# Altium schematic symbol library kmilo17pet-NSC_Switcher.SchLib: 2226 symbols (part 55 of 59)
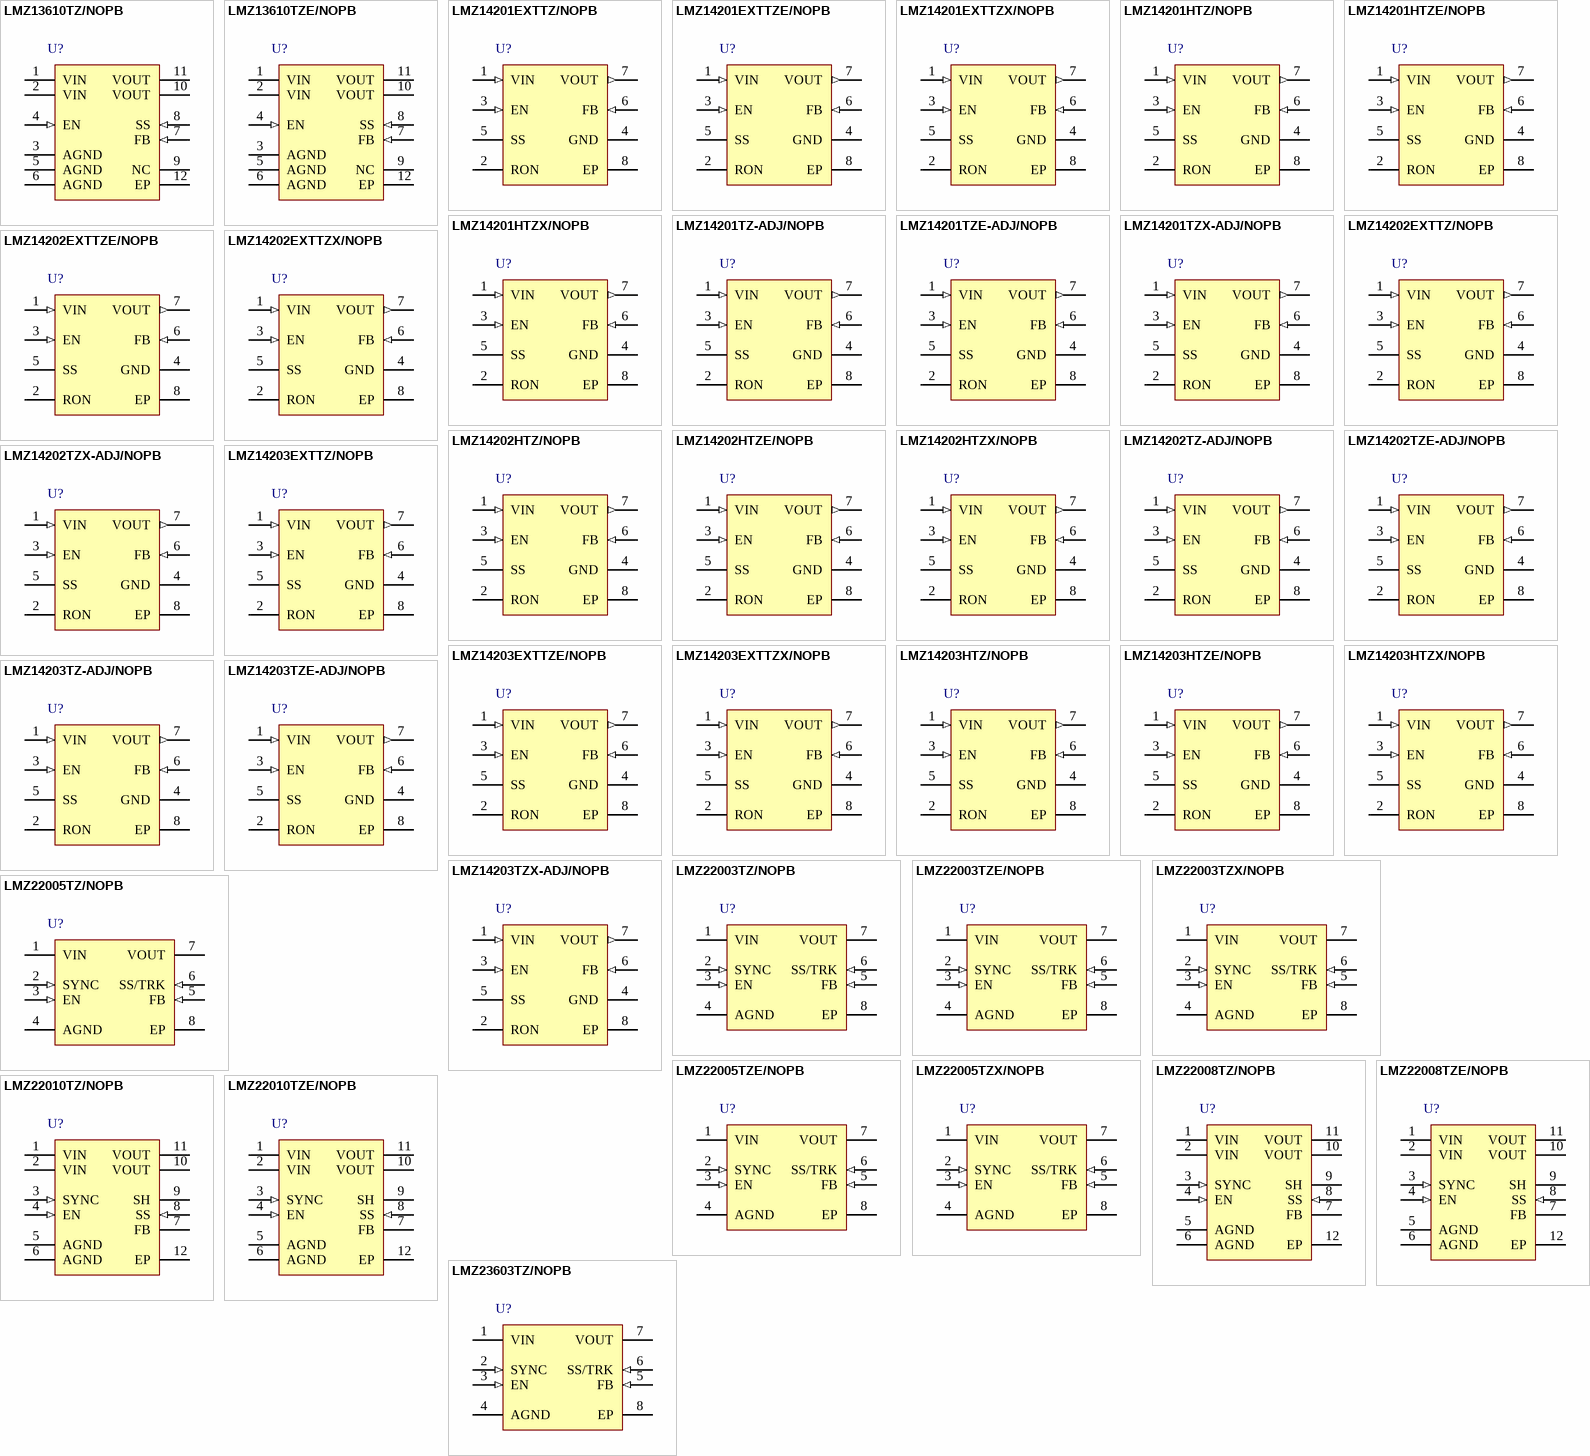
[diagram p123: symbols LMZ13610TZ/NOPB to LMZ23603TZ/NOPB]

## LMZ13610TZE/NOPB
designator U?
10A SIMPLE SWITCHER® Power Module with 36V Maximum Input Voltage, 11 pin TO-PMOD, 250 Reel; PartNumber: LMZ13610TZE/NOPB; Manufacturer: National Semiconductor; PackageTopMarking: NSUZXYTTE#*LMZ13610; PowerWise: N; High-Reliability: Y; DatasheetVersion: May-2011; PackageVersion: revE, Apr-2011; PackageReference: TZA11A; PackageDescription: TO-PMOD, 15 x 15 x 5.9 mm Body, 11 Lead, 1.27 mm Pitch, Surface Mount; RoHS: Y; PinCount: 11; CompType: Switcher; ComponentLink1Description: Manufacturer URL; ComponentLink1URL: http://www.national.com/; ComponentLink2Description: LMZ13610 Datasheet; ComponentLink2URL: http://www.national.com/ds/LM/LMZ13610.pdf; ComponentLink3Description: LMZ13610 Web Page; ComponentLink3URL: http://www.national.com/pf/LM/LMZ13610.html; ComponentLink4Description: TZA11A Package Page; ComponentLink4URL: http://www.national.com/packaging/folders/tza11a.html
footprint TZA11A_V (TO, 12-Leads, Body 15x15mm, Pitch 1.27mm, Lead Span 17.8mm, NSC Recommended)
pins: 1 VIN (power), 2 VIN (power), 3 AGND (power), 4 EN (in), 5 AGND (power), 6 AGND (power), 7 FB (in), 8 SS (in), 9 NC, 10 VOUT (power), 11 VOUT (power), 12 EP (power)

## LMZ14201EXTTZ/NOPB
designator U?
1A SIMPLE SWITCHER® Power Module with 42V Maximum Input Voltage for Military and Rugged Applications, 7 pin TO-PMOD; PartNumber: LMZ14201EXTTZ/NOPB; Manufacturer: National Semiconductor; PackageTopMarking: NSUZXYTTE#*LMZ14201*EXT; PowerWise: Y; DatasheetVersion: Aug-2010; PackageVersion: revD, Apr-2011; PackageReference: TZA07A; PackageDescription: TO-PMOD-7, 10.16 x 9.85 x 4.57 mm Body, 7 Lead, 1.27mm Pitch, Surface Mount; RoHS: Y; PinCount: 7; CompType: Switcher; High-Reliability: Y; ComponentLink1Description: Manufacturer URL; ComponentLink1URL: http://www.national.com/; ComponentLink2Description: LMZ14201EXT Datasheet; ComponentLink2URL: http://www.national.com/ds/LM/LMZ14201EXT.pdf; ComponentLink3Description: LMZ14201EXT Web Page; ComponentLink3URL: http://www.national.com/pf/LM/LMZ14201EXT.html; ComponentLink4Description: TZA07A Package Page; ComponentLink4URL: http://www.national.com/packaging/folders/tza07a.html
footprint TZA07A_V (D2-PAK, 8-Leads, Body 9.9x10.2mm, Pitch 1.27mm, Lead Span 13.8mm, NSC Recommended)
pins: 1 VIN (in), 2 RON, 3 EN (in), 4 GND (power), 5 SS, 6 FB (in), 7 VOUT (out), 8 EP

## LMZ14201EXTTZE/NOPB
designator U?
1A SIMPLE SWITCHER® Power Module with 42V Maximum Input Voltage for Military and Rugged Applications, 7 pin TO-PMOD; PartNumber: LMZ14201EXTTZE/NOPB; Manufacturer: National Semiconductor; PackageTopMarking: NSUZXYTTE#*LMZ14201*EXT; PowerWise: Y; DatasheetVersion: Aug-2010; PackageVersion: revD, Apr-2011; PackageReference: TZA07A; PackageDescription: TO-PMOD-7, 10.16 x 9.85 x 4.57 mm Body, 7 Lead, 1.27mm Pitch, Surface Mount; RoHS: Y; PinCount: 7; CompType: Switcher; High-Reliability: Y; ComponentLink1Description: Manufacturer URL; ComponentLink1URL: http://www.national.com/; ComponentLink2Description: LMZ14201EXT Datasheet; ComponentLink2URL: http://www.national.com/ds/LM/LMZ14201EXT.pdf; ComponentLink3Description: LMZ14201EXT Web Page; ComponentLink3URL: http://www.national.com/pf/LM/LMZ14201EXT.html; ComponentLink4Description: TZA07A Package Page; ComponentLink4URL: http://www.national.com/packaging/folders/tza07a.html
footprint TZA07A_V (D2-PAK, 8-Leads, Body 9.9x10.2mm, Pitch 1.27mm, Lead Span 13.8mm, NSC Recommended)
pins: 1 VIN (in), 2 RON, 3 EN (in), 4 GND (power), 5 SS, 6 FB (in), 7 VOUT (out), 8 EP

## LMZ14201EXTTZX/NOPB
designator U?
1A SIMPLE SWITCHER® Power Module with 42V Maximum Input Voltage for Military and Rugged Applications, 7 pin TO-PMOD; PartNumber: LMZ14201EXTTZX/NOPB; Manufacturer: National Semiconductor; PackageTopMarking: NSUZXYTTE#*LMZ14201*EXT; PowerWise: Y; DatasheetVersion: Aug-2010; PackageVersion: revD, Apr-2011; PackageReference: TZA07A; PackageDescription: TO-PMOD-7, 10.16 x 9.85 x 4.57 mm Body, 7 Lead, 1.27mm Pitch, Surface Mount; RoHS: Y; PinCount: 7; CompType: Switcher; High-Reliability: Y; ComponentLink1Description: Manufacturer URL; ComponentLink1URL: http://www.national.com/; ComponentLink2Description: LMZ14201EXT Datasheet; ComponentLink2URL: http://www.national.com/ds/LM/LMZ14201EXT.pdf; ComponentLink3Description: LMZ14201EXT Web Page; ComponentLink3URL: http://www.national.com/pf/LM/LMZ14201EXT.html; ComponentLink4Description: TZA07A Package Page; ComponentLink4URL: http://www.national.com/packaging/folders/tza07a.html
footprint TZA07A_V (D2-PAK, 8-Leads, Body 9.9x10.2mm, Pitch 1.27mm, Lead Span 13.8mm, NSC Recommended)
pins: 1 VIN (in), 2 RON, 3 EN (in), 4 GND (power), 5 SS, 6 FB (in), 7 VOUT (out), 8 EP

## LMZ14201HTZ/NOPB
designator U?
1A SIMPLE SWITCHER® Power Module with 42V Maximum Input, 7-pin TO-PMOD, Pb-Free, 250 Reel; PartNumber: LMZ14201HTZ/NOPB; Manufacturer: National Semiconductor; PackageTopMarking: NSUZXYTTE#*LMZ14201*HTZ; PowerWise: Y; DatasheetVersion: Jan-2011; PackageVersion: revD, Apr-2011; PackageReference: TZA07A; PackageDescription: TO-PMOD-7, 10.16 x 9.85 x 4.57 mm Body, 7 Lead, 1.27mm Pitch, Surface Mount; RoHS: Y; PinCount: 7; CompType: Switcher; High-Reliability: Y; ComponentLink1Description: Manufacturer URL; ComponentLink1URL: http://www.national.com/; ComponentLink2Description: LMZ14201 Datasheet; ComponentLink2URL: http://www.national.com/ds/LM/LMZ14201H.pdf; ComponentLink3Description: LMZ14201H Web Page; ComponentLink3URL: http://www.national.com/pf/LM/LMZ14201H.html; ComponentLink4Description: TZA07A Package Page; ComponentLink4URL: http://www.national.com/packaging/folders/tza07a.html
footprint TZA07A_V (D2-PAK, 8-Leads, Body 9.9x10.2mm, Pitch 1.27mm, Lead Span 13.8mm, NSC Recommended)
pins: 1 VIN (in), 2 RON, 3 EN (in), 4 GND (power), 5 SS, 6 FB (in), 7 VOUT (out), 8 EP

## LMZ14201HTZE/NOPB
designator U?
1A SIMPLE SWITCHER® Power Module with 42V Maximum Input, 7-pin TO-PMOD, Pb-Free, 45 Rail; PartNumber: LMZ14201HTZE/NOPB; Manufacturer: National Semiconductor; PackageTopMarking: NSUZXYTTE#*LMZ14201*HTZ; PowerWise: Y; DatasheetVersion: Jan-2011; PackageVersion: revD, Apr-2011; PackageReference: TZA07A; PackageDescription: TO-PMOD-7, 10.16 x 9.85 x 4.57 mm Body, 7 Lead, 1.27mm Pitch, Surface Mount; RoHS: Y; PinCount: 7; CompType: Switcher; High-Reliability: Y; ComponentLink1Description: Manufacturer URL; ComponentLink1URL: http://www.national.com/; ComponentLink2Description: LMZ14201 Datasheet; ComponentLink2URL: http://www.national.com/ds/LM/LMZ14201H.pdf; ComponentLink3Description: LMZ14201H Web Page; ComponentLink3URL: http://www.national.com/pf/LM/LMZ14201H.html; ComponentLink4Description: TZA07A Package Page; ComponentLink4URL: http://www.national.com/packaging/folders/tza07a.html
footprint TZA07A_V (D2-PAK, 8-Leads, Body 9.9x10.2mm, Pitch 1.27mm, Lead Span 13.8mm, NSC Recommended)
pins: 1 VIN (in), 2 RON, 3 EN (in), 4 GND (power), 5 SS, 6 FB (in), 7 VOUT (out), 8 EP

## LMZ14201HTZX/NOPB
designator U?
1A SIMPLE SWITCHER® Power Module with 42V Maximum Input, 7-pin TO-PMOD, Pb-Free, 500 Reel; PartNumber: LMZ14201HTZX/NOPB; Manufacturer: National Semiconductor; PackageTopMarking: NSUZXYTTE#*LMZ14201*HTZ; PowerWise: Y; DatasheetVersion: Jan-2011; PackageVersion: revD, Apr-2011; PackageReference: TZA07A; PackageDescription: TO-PMOD-7, 10.16 x 9.85 x 4.57 mm Body, 7 Lead, 1.27mm Pitch, Surface Mount; RoHS: Y; PinCount: 7; CompType: Switcher; High-Reliability: Y; ComponentLink1Description: Manufacturer URL; ComponentLink1URL: http://www.national.com/; ComponentLink2Description: LMZ14201 Datasheet; ComponentLink2URL: http://www.national.com/ds/LM/LMZ14201H.pdf; ComponentLink3Description: LMZ14201H Web Page; ComponentLink3URL: http://www.national.com/pf/LM/LMZ14201H.html; ComponentLink4Description: TZA07A Package Page; ComponentLink4URL: http://www.national.com/packaging/folders/tza07a.html
footprint TZA07A_V (D2-PAK, 8-Leads, Body 9.9x10.2mm, Pitch 1.27mm, Lead Span 13.8mm, NSC Recommended)
pins: 1 VIN (in), 2 RON, 3 EN (in), 4 GND (power), 5 SS, 6 FB (in), 7 VOUT (out), 8 EP

## LMZ14201TZ-ADJ/NOPB
designator U?
1A SIMPLE SWITCHER® Power Module with 42V Maximum Input, 7 pin TO-PMOD; PartNumber: LMZ14201TZ-ADJ/NOPB; Manufacturer: National Semiconductor; PackageTopMarking: NSUZXYTTE#*LMZ14201*TZ-ADJ; PowerWise: Y; DatasheetVersion: Jun-2010; PackageVersion: revD, Apr-2011; PackageReference: TZA07A; PackageDescription: TO-PMOD-7, 10.16 x 9.85 x 4.57 mm Body, 7 Lead, 1.27mm Pitch, Surface Mount; RoHS: Y; PinCount: 7; CompType: Switcher; High-Reliability: Y; ComponentLink1Description: Manufacturer URL; ComponentLink1URL: http://www.national.com/; ComponentLink2Description: LMZ14201 Datasheet; ComponentLink2URL: http://www.national.com/ds/LM/LMZ14201.pdf; ComponentLink3Description: LMZ14201 Web Page; ComponentLink3URL: http://www.national.com/pf/LM/LMZ14201.html; ComponentLink4Description: TZA07A Package Page; ComponentLink4URL: http://www.national.com/packaging/folders/tza07a.html
footprint TZA07A_V (D2-PAK, 8-Leads, Body 9.9x10.2mm, Pitch 1.27mm, Lead Span 13.8mm, NSC Recommended)
pins: 1 VIN (in), 2 RON, 3 EN (in), 4 GND (power), 5 SS, 6 FB (in), 7 VOUT (out), 8 EP

## LMZ14201TZE-ADJ/NOPB
designator U?
1A SIMPLE SWITCHER® Power Module with 42V Maximum Input, 7 pin TO-PMOD; PartNumber: LMZ14201TZE-ADJ/NOPB; Manufacturer: National Semiconductor; PackageTopMarking: NSUZXYTTE#*LMZ14201*TZ-ADJ; PowerWise: N; High-Reliability: Y; DatasheetVersion: Jun-2010; PackageVersion: revD, Apr-2011; PackageReference: TZA07A; PackageDescription: TO-PMOD-7, 10.16 x 9.85 x 4.57 mm Body, 7 Lead, 1.27mm Pitch, Surface Mount; RoHS: Y; PinCount: 7; CompType: Switcher; ComponentLink1Description: Manufacturer URL; ComponentLink1URL: http://www.national.com/; ComponentLink2Description: LMZ14201 Datasheet; ComponentLink2URL: http://www.national.com/ds/LM/LMZ14201.pdf; ComponentLink3Description: LMZ14201 Web Page; ComponentLink3URL: http://www.national.com/pf/LM/LMZ14201.html; ComponentLink4Description: TZA07A Package Page; ComponentLink4URL: http://www.national.com/packaging/folders/tza07a.html
footprint TZA07A_V (D2-PAK, 8-Leads, Body 9.9x10.2mm, Pitch 1.27mm, Lead Span 13.8mm, NSC Recommended)
pins: 1 VIN (in), 2 RON, 3 EN (in), 4 GND (power), 5 SS, 6 FB (in), 7 VOUT (out), 8 EP

## LMZ14201TZX-ADJ/NOPB
designator U?
1A SIMPLE SWITCHER® Power Module with 42V Maximum Input, 7 pin TO-PMOD; PartNumber: LMZ14201TZX-ADJ/NOPB; Manufacturer: National Semiconductor; PackageTopMarking: NSUZXYTTE#*LMZ14201*TZ-ADJ; PowerWise: Y; DatasheetVersion: Jun-2010; PackageVersion: revD, Apr-2011; PackageReference: TZA07A; PackageDescription: TO-PMOD-7, 10.16 x 9.85 x 4.57 mm Body, 7 Lead, 1.27mm Pitch, Surface Mount; RoHS: Y; PinCount: 7; CompType: Switcher; High-Reliability: Y; ComponentLink1Description: Manufacturer URL; ComponentLink1URL: http://www.national.com/; ComponentLink2Description: LMZ14201 Datasheet; ComponentLink2URL: http://www.national.com/ds/LM/LMZ14201.pdf; ComponentLink3Description: LMZ14201 Web Page; ComponentLink3URL: http://www.national.com/pf/LM/LMZ14201.html; ComponentLink4Description: TZA07A Package Page; ComponentLink4URL: http://www.national.com/packaging/folders/tza07a.html
footprint TZA07A_V (D2-PAK, 8-Leads, Body 9.9x10.2mm, Pitch 1.27mm, Lead Span 13.8mm, NSC Recommended)
pins: 1 VIN (in), 2 RON, 3 EN (in), 4 GND (power), 5 SS, 6 FB (in), 7 VOUT (out), 8 EP

## LMZ14202EXTTZ/NOPB
designator U?
2A SIMPLE SWITCHER® Power Module with 42V Maximum Input Voltage for Military and Rugged Applications, 7 pin TO-PMOD; PartNumber: LMZ14202EXTTZ/NOPB; Manufacturer: National Semiconductor; PackageTopMarking: NSUZXYTTE#*LMZ14202*EXT; PowerWise: Y; DatasheetVersion: Aug-2010; PackageVersion: revD, Apr-2011; PackageReference: TZA07A; PackageDescription: TO-PMOD-7, 10.16 x 9.85 x 4.57 mm Body, 7 Lead, 1.27mm Pitch, Surface Mount; RoHS: Y; PinCount: 7; CompType: Switcher; High-Reliability: Y; ComponentLink1Description: Manufacturer URL; ComponentLink1URL: http://www.national.com/; ComponentLink2Description: LMZ14202EXT Datasheet; ComponentLink2URL: http://www.national.com/ds/LM/LMZ14202EXT.pdf; ComponentLink3Description: LMZ14202EXT Web Page; ComponentLink3URL: http://www.national.com/pf/LM/LMZ14202EXT.html; ComponentLink4Description: TZA07A Package Page; ComponentLink4URL: http://www.national.com/packaging/folders/tza07a.html
footprint TZA07A_V (D2-PAK, 8-Leads, Body 9.9x10.2mm, Pitch 1.27mm, Lead Span 13.8mm, NSC Recommended)
pins: 1 VIN (in), 2 RON, 3 EN (in), 4 GND (power), 5 SS, 6 FB (in), 7 VOUT (out), 8 EP

## LMZ14202EXTTZE/NOPB
designator U?
2A SIMPLE SWITCHER® Power Module with 42V Maximum Input Voltage for Military and Rugged Applications, 7 pin TO-PMOD; PartNumber: LMZ14202EXTTZE/NOPB; Manufacturer: National Semiconductor; PackageTopMarking: NSUZXYTTE#*LMZ14202*EXT; PowerWise: Y; DatasheetVersion: Aug-2010; PackageVersion: revD, Apr-2011; PackageReference: TZA07A; PackageDescription: TO-PMOD-7, 10.16 x 9.85 x 4.57 mm Body, 7 Lead, 1.27mm Pitch, Surface Mount; RoHS: Y; PinCount: 7; CompType: Switcher; High-Reliability: Y; ComponentLink1Description: Manufacturer URL; ComponentLink1URL: http://www.national.com/; ComponentLink2Description: LMZ14202EXT Datasheet; ComponentLink2URL: http://www.national.com/ds/LM/LMZ14202EXT.pdf; ComponentLink3Description: LMZ14202EXT Web Page; ComponentLink3URL: http://www.national.com/pf/LM/LMZ14202EXT.html; ComponentLink4Description: TZA07A Package Page; ComponentLink4URL: http://www.national.com/packaging/folders/tza07a.html
footprint TZA07A_V (D2-PAK, 8-Leads, Body 9.9x10.2mm, Pitch 1.27mm, Lead Span 13.8mm, NSC Recommended)
pins: 1 VIN (in), 2 RON, 3 EN (in), 4 GND (power), 5 SS, 6 FB (in), 7 VOUT (out), 8 EP

## LMZ14202EXTTZX/NOPB
designator U?
2A SIMPLE SWITCHER® Power Module with 42V Maximum Input Voltage for Military and Rugged Applications, 7 pin TO-PMOD; PartNumber: LMZ14202EXTTZX/NOPB; Manufacturer: National Semiconductor; PackageTopMarking: NSUZXYTTE#*LMZ14202*EXT; PowerWise: Y; DatasheetVersion: Aug-2010; PackageVersion: revD, Apr-2011; PackageReference: TZA07A; PackageDescription: TO-PMOD-7, 10.16 x 9.85 x 4.57 mm Body, 7 Lead, 1.27mm Pitch, Surface Mount; RoHS: Y; PinCount: 7; CompType: Switcher; High-Reliability: Y; ComponentLink1Description: Manufacturer URL; ComponentLink1URL: http://www.national.com/; ComponentLink2Description: LMZ14202EXT Datasheet; ComponentLink2URL: http://www.national.com/ds/LM/LMZ14202EXT.pdf; ComponentLink3Description: LMZ14202EXT Web Page; ComponentLink3URL: http://www.national.com/pf/LM/LMZ14202EXT.html; ComponentLink4Description: TZA07A Package Page; ComponentLink4URL: http://www.national.com/packaging/folders/tza07a.html
footprint TZA07A_V (D2-PAK, 8-Leads, Body 9.9x10.2mm, Pitch 1.27mm, Lead Span 13.8mm, NSC Recommended)
pins: 1 VIN (in), 2 RON, 3 EN (in), 4 GND (power), 5 SS, 6 FB (in), 7 VOUT (out), 8 EP

## LMZ14202HTZ/NOPB
designator U?
2A SIMPLE SWITCHER® Power Module with 42V Maximum Input, 7-pin TO-PMOD, Pb-Free, 250 Reel; PartNumber: LMZ14202HTZ/NOPB; Manufacturer: National Semiconductor; PackageTopMarking: NSUZXYTTE#*LMZ14202*HTZ; PowerWise: Y; DatasheetVersion: Jan-2011; PackageVersion: revD, Apr-2011; PackageReference: TZA07A; PackageDescription: TO-PMOD-7, 10.16 x 9.85 x 4.57 mm Body, 7 Lead, 1.27mm Pitch, Surface Mount; RoHS: Y; PinCount: 7; CompType: Switcher; High-Reliability: Y; ComponentLink1Description: Manufacturer URL; ComponentLink1URL: http://www.national.com/; ComponentLink2Description: LMZ14202 Datasheet; ComponentLink2URL: http://www.national.com/ds/LM/LMZ14202H.pdf; ComponentLink3Description: LMZ14202H Web Page; ComponentLink3URL: http://www.national.com/pf/LM/LMZ14202H.html; ComponentLink4Description: TZA07A Package Page; ComponentLink4URL: http://www.national.com/packaging/folders/tza07a.html
footprint TZA07A_V (D2-PAK, 8-Leads, Body 9.9x10.2mm, Pitch 1.27mm, Lead Span 13.8mm, NSC Recommended)
pins: 1 VIN (in), 2 RON, 3 EN (in), 4 GND (power), 5 SS, 6 FB (in), 7 VOUT (out), 8 EP

## LMZ14202HTZE/NOPB
designator U?
2A SIMPLE SWITCHER® Power Module with 42V Maximum Input, 7-pin TO-PMOD, Pb-Free, 45 Rail; PartNumber: LMZ14202HTZE/NOPB; Manufacturer: National Semiconductor; PackageTopMarking: NSUZXYTTE#*LMZ14202*HTZ; PowerWise: Y; DatasheetVersion: Jan-2011; PackageVersion: revD, Apr-2011; PackageReference: TZA07A; PackageDescription: TO-PMOD-7, 10.16 x 9.85 x 4.57 mm Body, 7 Lead, 1.27mm Pitch, Surface Mount; RoHS: Y; PinCount: 7; CompType: Switcher; High-Reliability: Y; ComponentLink1Description: Manufacturer URL; ComponentLink1URL: http://www.national.com/; ComponentLink2Description: LMZ14202 Datasheet; ComponentLink2URL: http://www.national.com/ds/LM/LMZ14202H.pdf; ComponentLink3Description: LMZ14202H Web Page; ComponentLink3URL: http://www.national.com/pf/LM/LMZ14202H.html; ComponentLink4Description: TZA07A Package Page; ComponentLink4URL: http://www.national.com/packaging/folders/tza07a.html
footprint TZA07A_V (D2-PAK, 8-Leads, Body 9.9x10.2mm, Pitch 1.27mm, Lead Span 13.8mm, NSC Recommended)
pins: 1 VIN (in), 2 RON, 3 EN (in), 4 GND (power), 5 SS, 6 FB (in), 7 VOUT (out), 8 EP

## LMZ14202HTZX/NOPB
designator U?
2A SIMPLE SWITCHER® Power Module with 42V Maximum Input, 7-pin TO-PMOD, Pb-Free, 500 Reel; PartNumber: LMZ14202HTZX/NOPB; Manufacturer: National Semiconductor; PackageTopMarking: NSUZXYTTE#*LMZ14202*HTZ; PowerWise: Y; DatasheetVersion: Jan-2011; PackageVersion: revD, Apr-2011; PackageReference: TZA07A; PackageDescription: TO-PMOD-7, 10.16 x 9.85 x 4.57 mm Body, 7 Lead, 1.27mm Pitch, Surface Mount; RoHS: Y; PinCount: 7; CompType: Switcher; High-Reliability: Y; ComponentLink1Description: Manufacturer URL; ComponentLink1URL: http://www.national.com/; ComponentLink2Description: LMZ14202 Datasheet; ComponentLink2URL: http://www.national.com/ds/LM/LMZ14202H.pdf; ComponentLink3Description: LMZ14202H Web Page; ComponentLink3URL: http://www.national.com/pf/LM/LMZ14202H.html; ComponentLink4Description: TZA07A Package Page; ComponentLink4URL: http://www.national.com/packaging/folders/tza07a.html
footprint TZA07A_V (D2-PAK, 8-Leads, Body 9.9x10.2mm, Pitch 1.27mm, Lead Span 13.8mm, NSC Recommended)
pins: 1 VIN (in), 2 RON, 3 EN (in), 4 GND (power), 5 SS, 6 FB (in), 7 VOUT (out), 8 EP

## LMZ14202TZ-ADJ/NOPB
designator U?
2A SIMPLE SWITCHER® Power Module with 42V Maximum Input, 7 pin TO-PMOD; PartNumber: LMZ14202TZ-ADJ/NOPB; Manufacturer: National Semiconductor; PackageTopMarking: NSUZXYTTE#*LMZ14202*TZ-ADJ; PowerWise: Y; DatasheetVersion: Jun-2010; PackageVersion: revD, Apr-2011; PackageReference: TZA07A; PackageDescription: TO-PMOD-7, 10.16 x 9.85 x 4.57 mm Body, 7 Lead, 1.27mm Pitch, Surface Mount; RoHS: Y; PinCount: 7; CompType: Switcher; High-Reliability: Y; ComponentLink1Description: Manufacturer URL; ComponentLink1URL: http://www.national.com/; ComponentLink2Description: LMZ14202 Datasheet; ComponentLink2URL: http://www.national.com/ds/LM/LMZ14202.pdf; ComponentLink3Description: LMZ14202 Web Page; ComponentLink3URL: http://www.national.com/pf/LM/LMZ14202.html; ComponentLink4Description: TZA07A Package Page; ComponentLink4URL: http://www.national.com/packaging/folders/tza07a.html
footprint TZA07A_V (D2-PAK, 8-Leads, Body 9.9x10.2mm, Pitch 1.27mm, Lead Span 13.8mm, NSC Recommended)
pins: 1 VIN (in), 2 RON, 3 EN (in), 4 GND (power), 5 SS, 6 FB (in), 7 VOUT (out), 8 EP

## LMZ14202TZE-ADJ/NOPB
designator U?
2A SIMPLE SWITCHER® Power Module with 42V Maximum Input, 7 pin TO-PMOD; PartNumber: LMZ14202TZE-ADJ/NOPB; Manufacturer: National Semiconductor; PackageTopMarking: NSUZXYTTE#*LMZ14202*TZ-ADJ; PowerWise: N; High-Reliability: Y; DatasheetVersion: Jun-2010; PackageVersion: revD, Apr-2011; PackageReference: TZA07A; PackageDescription: TO-PMOD-7, 10.16 x 9.85 x 4.57 mm Body, 7 Lead, 1.27mm Pitch, Surface Mount; RoHS: Y; PinCount: 7; CompType: Switcher; ComponentLink1Description: Manufacturer URL; ComponentLink1URL: http://www.national.com/; ComponentLink2Description: LMZ14202 Datasheet; ComponentLink2URL: http://www.national.com/ds/LM/LMZ14202.pdf; ComponentLink3Description: LMZ14202 Web Page; ComponentLink3URL: http://www.national.com/pf/LM/LMZ14202.html; ComponentLink4Description: TZA07A Package Page; ComponentLink4URL: http://www.national.com/packaging/folders/tza07a.html
footprint TZA07A_V (D2-PAK, 8-Leads, Body 9.9x10.2mm, Pitch 1.27mm, Lead Span 13.8mm, NSC Recommended)
pins: 1 VIN (in), 2 RON, 3 EN (in), 4 GND (power), 5 SS, 6 FB (in), 7 VOUT (out), 8 EP

## LMZ14202TZX-ADJ/NOPB
designator U?
2A SIMPLE SWITCHER® Power Module with 42V Maximum Input, 7 pin TO-PMOD; PartNumber: LMZ14202TZX-ADJ/NOPB; Manufacturer: National Semiconductor; PackageTopMarking: NSUZXYTTE#*LMZ14202*TZ-ADJ; PowerWise: Y; DatasheetVersion: Jun-2010; PackageVersion: revD, Apr-2011; PackageReference: TZA07A; PackageDescription: TO-PMOD-7, 10.16 x 9.85 x 4.57 mm Body, 7 Lead, 1.27mm Pitch, Surface Mount; RoHS: Y; PinCount: 7; CompType: Switcher; High-Reliability: Y; ComponentLink1Description: Manufacturer URL; ComponentLink1URL: http://www.national.com/; ComponentLink2Description: LMZ14202 Datasheet; ComponentLink2URL: http://www.national.com/ds/LM/LMZ14202.pdf; ComponentLink3Description: LMZ14202 Web Page; ComponentLink3URL: http://www.national.com/pf/LM/LMZ14202.html; ComponentLink4Description: TZA07A Package Page; ComponentLink4URL: http://www.national.com/packaging/folders/tza07a.html
footprint TZA07A_V (D2-PAK, 8-Leads, Body 9.9x10.2mm, Pitch 1.27mm, Lead Span 13.8mm, NSC Recommended)
pins: 1 VIN (in), 2 RON, 3 EN (in), 4 GND (power), 5 SS, 6 FB (in), 7 VOUT (out), 8 EP

## LMZ14203EXTTZ/NOPB
designator U?
3A SIMPLE SWITCHER® Power Module with 42V Maximum Input Voltage for Military and Rugged Applications, 7 pin TO-PMOD; PartNumber: LMZ14203EXTTZ/NOPB; Manufacturer: National Semiconductor; PackageTopMarking: NSUZXYTTE#*LMZ14203*EXT; PowerWise: Y; DatasheetVersion: Aug-2010; PackageVersion: revD, Apr-2011; PackageReference: TZA07A; PackageDescription: TO-PMOD-7, 10.16 x 9.85 x 4.57 mm Body, 7 Lead, 1.27mm Pitch, Surface Mount; RoHS: Y; PinCount: 7; CompType: Switcher; High-Reliability: Y; ComponentLink1Description: Manufacturer URL; ComponentLink1URL: http://www.national.com/; ComponentLink2Description: LMZ14203EXT Datasheet; ComponentLink2URL: http://www.national.com/ds/LM/LMZ14203EXT.pdf; ComponentLink3Description: LMZ14203EXT Web Page; ComponentLink3URL: http://www.national.com/pf/LM/LMZ14203EXT.html; ComponentLink4Description: TZA07A Package Page; ComponentLink4URL: http://www.national.com/packaging/folders/tza07a.html
footprint TZA07A_V (D2-PAK, 8-Leads, Body 9.9x10.2mm, Pitch 1.27mm, Lead Span 13.8mm, NSC Recommended)
pins: 1 VIN (in), 2 RON, 3 EN (in), 4 GND (power), 5 SS, 6 FB (in), 7 VOUT (out), 8 EP

## LMZ14203EXTTZE/NOPB
designator U?
3A SIMPLE SWITCHER® Power Module with 42V Maximum Input Voltage for Military and Rugged Applications, 7 pin TO-PMOD; PartNumber: LMZ14203EXTTZE/NOPB; Manufacturer: National Semiconductor; PackageTopMarking: NSUZXYTTE#*LMZ14203*EXT; PowerWise: Y; DatasheetVersion: Aug-2010; PackageVersion: revD, Apr-2011; PackageReference: TZA07A; PackageDescription: TO-PMOD-7, 10.16 x 9.85 x 4.57 mm Body, 7 Lead, 1.27mm Pitch, Surface Mount; RoHS: Y; PinCount: 7; CompType: Switcher; High-Reliability: Y; ComponentLink1Description: Manufacturer URL; ComponentLink1URL: http://www.national.com/; ComponentLink2Description: LMZ14203EXT Datasheet; ComponentLink2URL: http://www.national.com/ds/LM/LMZ14203EXT.pdf; ComponentLink3Description: LMZ14203EXT Web Page; ComponentLink3URL: http://www.national.com/pf/LM/LMZ14203EXT.html; ComponentLink4Description: TZA07A Package Page; ComponentLink4URL: http://www.national.com/packaging/folders/tza07a.html
footprint TZA07A_V (D2-PAK, 8-Leads, Body 9.9x10.2mm, Pitch 1.27mm, Lead Span 13.8mm, NSC Recommended)
pins: 1 VIN (in), 2 RON, 3 EN (in), 4 GND (power), 5 SS, 6 FB (in), 7 VOUT (out), 8 EP

## LMZ14203EXTTZX/NOPB
designator U?
3A SIMPLE SWITCHER® Power Module with 42V Maximum Input Voltage for Military and Rugged Applications, 7 pin TO-PMOD; PartNumber: LMZ14203EXTTZX/NOPB; Manufacturer: National Semiconductor; PackageTopMarking: NSUZXYTTE#*LMZ14203*EXT; PowerWise: Y; DatasheetVersion: Aug-2010; PackageVersion: revD, Apr-2011; PackageReference: TZA07A; PackageDescription: TO-PMOD-7, 10.16 x 9.85 x 4.57 mm Body, 7 Lead, 1.27mm Pitch, Surface Mount; RoHS: Y; PinCount: 7; CompType: Switcher; High-Reliability: Y; ComponentLink1Description: Manufacturer URL; ComponentLink1URL: http://www.national.com/; ComponentLink2Description: LMZ14203EXT Datasheet; ComponentLink2URL: http://www.national.com/ds/LM/LMZ14203EXT.pdf; ComponentLink3Description: LMZ14203EXT Web Page; ComponentLink3URL: http://www.national.com/pf/LM/LMZ14203EXT.html; ComponentLink4Description: TZA07A Package Page; ComponentLink4URL: http://www.national.com/packaging/folders/tza07a.html
footprint TZA07A_V (D2-PAK, 8-Leads, Body 9.9x10.2mm, Pitch 1.27mm, Lead Span 13.8mm, NSC Recommended)
pins: 1 VIN (in), 2 RON, 3 EN (in), 4 GND (power), 5 SS, 6 FB (in), 7 VOUT (out), 8 EP

## LMZ14203HTZ/NOPB
designator U?
3A SIMPLE SWITCHER® Power Module with 42V Maximum Input for High Voltage Output, 7-pin TO-PMOD, Pb-Free, 250 Reel; PartNumber: LMZ14203HTZ/NOPB; Manufacturer: National Semiconductor; PackageTopMarking: NSUZXYTTE#*LMZ14203*HTZ; PowerWise: Y; DatasheetVersion: Jan-2011; PackageVersion: revD, Apr-2011; PackageReference: TZA07A; PackageDescription: TO-PMOD-7, 10.16 x 9.85 x 4.57 mm Body, 7 Lead, 1.27mm Pitch, Surface Mount; RoHS: Y; PinCount: 7; CompType: Switcher; High-Reliability: Y; ComponentLink1Description: Manufacturer URL; ComponentLink1URL: http://www.national.com/; ComponentLink2Description: LMZ14203 Datasheet; ComponentLink2URL: http://www.national.com/ds/LM/LMZ14203H.pdf; ComponentLink3Description: LMZ14203H Web Page; ComponentLink3URL: http://www.national.com/pf/LM/LMZ14203H.html; ComponentLink4Description: TZA07A Package Page; ComponentLink4URL: http://www.national.com/packaging/folders/tza07a.html
footprint TZA07A_V (D2-PAK, 8-Leads, Body 9.9x10.2mm, Pitch 1.27mm, Lead Span 13.8mm, NSC Recommended)
pins: 1 VIN (in), 2 RON, 3 EN (in), 4 GND (power), 5 SS, 6 FB (in), 7 VOUT (out), 8 EP

## LMZ14203HTZE/NOPB
designator U?
3A SIMPLE SWITCHER® Power Module with 42V Maximum Input for High Voltage Output, 7-pin TO-PMOD, Pb-Free, 45 Rail; PartNumber: LMZ14203HTZE/NOPB; Manufacturer: National Semiconductor; PackageTopMarking: NSUZXYTTE#*LMZ14203*HTZ; PowerWise: Y; DatasheetVersion: Jan-2011; PackageVersion: revD, Apr-2011; PackageReference: TZA07A; PackageDescription: TO-PMOD-7, 10.16 x 9.85 x 4.57 mm Body, 7 Lead, 1.27mm Pitch, Surface Mount; RoHS: Y; PinCount: 7; CompType: Switcher; High-Reliability: Y; ComponentLink1Description: Manufacturer URL; ComponentLink1URL: http://www.national.com/; ComponentLink2Description: LMZ14203 Datasheet; ComponentLink2URL: http://www.national.com/ds/LM/LMZ14203H.pdf; ComponentLink3Description: LMZ14203H Web Page; ComponentLink3URL: http://www.national.com/pf/LM/LMZ14203H.html; ComponentLink4Description: TZA07A Package Page; ComponentLink4URL: http://www.national.com/packaging/folders/tza07a.html
footprint TZA07A_V (D2-PAK, 8-Leads, Body 9.9x10.2mm, Pitch 1.27mm, Lead Span 13.8mm, NSC Recommended)
pins: 1 VIN (in), 2 RON, 3 EN (in), 4 GND (power), 5 SS, 6 FB (in), 7 VOUT (out), 8 EP

## LMZ14203HTZX/NOPB
designator U?
3A SIMPLE SWITCHER® Power Module with 42V Maximum Input for High Voltage Output, 7-pin TO-PMOD, Pb-Free, 500 Reel; PartNumber: LMZ14203HTZX/NOPB; Manufacturer: National Semiconductor; PackageTopMarking: NSUZXYTTE#*LMZ14203*HTZ; PowerWise: Y; DatasheetVersion: Jan-2011; PackageVersion: revD, Apr-2011; PackageReference: TZA07A; PackageDescription: TO-PMOD-7, 10.16 x 9.85 x 4.57 mm Body, 7 Lead, 1.27mm Pitch, Surface Mount; RoHS: Y; PinCount: 7; CompType: Switcher; High-Reliability: Y; ComponentLink1Description: Manufacturer URL; ComponentLink1URL: http://www.national.com/; ComponentLink2Description: LMZ14203 Datasheet; ComponentLink2URL: http://www.national.com/ds/LM/LMZ14203H.pdf; ComponentLink3Description: LMZ14203H Web Page; ComponentLink3URL: http://www.national.com/pf/LM/LMZ14203H.html; ComponentLink4Description: TZA07A Package Page; ComponentLink4URL: http://www.national.com/packaging/folders/tza07a.html
footprint TZA07A_V (D2-PAK, 8-Leads, Body 9.9x10.2mm, Pitch 1.27mm, Lead Span 13.8mm, NSC Recommended)
pins: 1 VIN (in), 2 RON, 3 EN (in), 4 GND (power), 5 SS, 6 FB (in), 7 VOUT (out), 8 EP

## LMZ14203TZ-ADJ/NOPB
designator U?
3A SIMPLE SWITCHER® Power Module with 42V Maximum Input Voltage, 7-pin TO-PMOD, Pb-Free; PartNumber: LMZ14203TZ-ADJ/NOPB; Manufacturer: National Semiconductor; PackageTopMarking: NSUZXYTTE#*LMZ14203*TZ-ADJ; PowerWise: Y; DatasheetVersion: Jun-2010; PackageVersion: revD, Apr-2011; PackageReference: TZA07A; PackageDescription: TO-PMOD-7, 10.16 x 9.85 x 4.57 mm Body, 7 Lead, 1.27mm Pitch, Surface Mount; RoHS: Y; PinCount: 8; CompType: Switcher; High-Reliability: Y; ComponentLink1Description: Manufacturer URL; ComponentLink1URL: http://www.national.com/; ComponentLink2Description: LMZ14203 Datasheet; ComponentLink2URL: http://www.national.com/ds/LM/LMZ14203.pdf; ComponentLink3Description: LMZ14203 Web Page; ComponentLink3URL: http://www.national.com/pf/LM/LMZ14203.html; ComponentLink4Description: TZA07A Package Page; ComponentLink4URL: http://www.national.com/packaging/folders/tza07a.html
footprint TZA07A_V (D2-PAK, 8-Leads, Body 9.9x10.2mm, Pitch 1.27mm, Lead Span 13.8mm, NSC Recommended)
pins: 1 VIN (in), 2 RON, 3 EN (in), 4 GND (power), 5 SS, 6 FB (in), 7 VOUT (out), 8 EP

## LMZ14203TZE-ADJ/NOPB
designator U?
3A SIMPLE SWITCHER® Power Module with 42V Maximum Input, 7 pin TO-PMOD, Pb-Free; PartNumber: LMZ14203TZE-ADJ/NOPB; Manufacturer: National Semiconductor; PackageTopMarking: NSUZXYTTE#*LMZ14203*TZ-ADJ; PowerWise: N; High-Reliability: Y; DatasheetVersion: Jun-2010; PackageVersion: revD, Apr-2011; PackageReference: TZA07A; PackageDescription: TO-PMOD-7, 10.16 x 9.85 x 4.57 mm Body, 7 Lead, 1.27mm Pitch, Surface Mount; RoHS: Y; PinCount: 7; CompType: Switcher; ComponentLink1Description: Manufacturer URL; ComponentLink1URL: http://www.national.com/; ComponentLink2Description: LMZ14203 Datasheet; ComponentLink2URL: http://www.national.com/ds/LM/LMZ14203.pdf; ComponentLink3Description: LMZ14203 Web Page; ComponentLink3URL: http://www.national.com/pf/LM/LMZ14203.html; ComponentLink4Description: TZA07A Package Page; ComponentLink4URL: http://www.national.com/packaging/folders/tza07a.html
footprint TZA07A_V (D2-PAK, 8-Leads, Body 9.9x10.2mm, Pitch 1.27mm, Lead Span 13.8mm, NSC Recommended)
pins: 1 VIN (in), 2 RON, 3 EN (in), 4 GND (power), 5 SS, 6 FB (in), 7 VOUT (out), 8 EP

## LMZ14203TZX-ADJ/NOPB
designator U?
3A SIMPLE SWITCHER® Power Module with 42V Maximum Input Voltage, 7-pin TO-PMOD, Pb-Free; PartNumber: LMZ14203TZX-ADJ/NOPB; Manufacturer: National Semiconductor; PackageTopMarking: NSUZXYTTE#*LMZ14203*TZ-ADJ; PowerWise: Y; DatasheetVersion: Jun-2010; PackageVersion: revD, Apr-2011; PackageReference: TZA07A; PackageDescription: TO-PMOD-7, 10.16 x 9.85 x 4.57 mm Body, 7 Lead, 1.27mm Pitch, Surface Mount; RoHS: Y; PinCount: 8; CompType: Switcher; High-Reliability: Y; ComponentLink1Description: Manufacturer URL; ComponentLink1URL: http://www.national.com/; ComponentLink2Description: LMZ14203 Datasheet; ComponentLink2URL: http://www.national.com/ds/LM/LMZ14203.pdf; ComponentLink3Description: LMZ14203 Web Page; ComponentLink3URL: http://www.national.com/pf/LM/LMZ14203.html; ComponentLink4Description: TZA07A Package Page; ComponentLink4URL: http://www.national.com/packaging/folders/tza07a.html
footprint TZA07A_V (D2-PAK, 8-Leads, Body 9.9x10.2mm, Pitch 1.27mm, Lead Span 13.8mm, NSC Recommended)
pins: 1 VIN (in), 2 RON, 3 EN (in), 4 GND (power), 5 SS, 6 FB (in), 7 VOUT (out), 8 EP

## LMZ22003TZ/NOPB
designator U?
3A SIMPLE SWITCHER® Power Module with 20V Maximum Input Voltage, 7 pin TO-PMOD, 45 Rail; PartNumber: LMZ22003TZ/NOPB; Manufacturer: National Semiconductor; PackageTopMarking: NSUZXYTTE#*LMZ22003; PowerWise: N; High-Reliability: Y; DatasheetVersion: Apr-2011; PackageVersion: revD, Apr-2011; PackageReference: TZA07A; PackageDescription: TO-PMOD-7, 10.16 x 9.85 x 4.57 mm Body, 7 Lead, 1.27mm Pitch, Surface Mount; RoHS: Y; PinCount: 7; CompType: Switcher; ComponentLink1Description: Manufacturer URL; ComponentLink1URL: http://www.national.com/; ComponentLink2Description: LMZ22003 Datasheet; ComponentLink2URL: http://www.national.com/ds/LM/LMZ22003.pdf; ComponentLink3Description: LMZ22003 Web Page; ComponentLink3URL: http://www.national.com/pf/LM/LMZ22003.html; ComponentLink4Description: TZA07A Package Page; ComponentLink4URL: http://www.national.com/packaging/folders/tza07a.html
footprint TZA07A_V (D2-PAK, 8-Leads, Body 9.9x10.2mm, Pitch 1.27mm, Lead Span 13.8mm, NSC Recommended)
pins: 1 VIN (power), 2 SYNC (in), 3 EN (in), 4 AGND (power), 5 FB (in), 6 SS/TRK (in), 7 VOUT (power), 8 EP (power)

## LMZ22003TZE/NOPB
designator U?
3A SIMPLE SWITCHER® Power Module with 20V Maximum Input Voltage, 7 pin TO-PMOD, 250 Reel; PartNumber: LMZ22003TZE/NOPB; Manufacturer: National Semiconductor; PackageTopMarking: NSUZXYTTE#*LMZ22003; PowerWise: N; High-Reliability: Y; DatasheetVersion: Apr-2011; PackageVersion: revD, Apr-2011; PackageReference: TZA07A; PackageDescription: TO-PMOD-7, 10.16 x 9.85 x 4.57 mm Body, 7 Lead, 1.27mm Pitch, Surface Mount; RoHS: Y; PinCount: 7; CompType: Switcher; ComponentLink1Description: Manufacturer URL; ComponentLink1URL: http://www.national.com/; ComponentLink2Description: LMZ22003 Datasheet; ComponentLink2URL: http://www.national.com/ds/LM/LMZ22003.pdf; ComponentLink3Description: LMZ22003 Web Page; ComponentLink3URL: http://www.national.com/pf/LM/LMZ22003.html; ComponentLink4Description: TZA07A Package Page; ComponentLink4URL: http://www.national.com/packaging/folders/tza07a.html
footprint TZA07A_V (D2-PAK, 8-Leads, Body 9.9x10.2mm, Pitch 1.27mm, Lead Span 13.8mm, NSC Recommended)
pins: 1 VIN (power), 2 SYNC (in), 3 EN (in), 4 AGND (power), 5 FB (in), 6 SS/TRK (in), 7 VOUT (power), 8 EP (power)

## LMZ22003TZX/NOPB
designator U?
3A SIMPLE SWITCHER® Power Module with 20V Maximum Input Voltage, 7 pin TO-PMOD, 500 Reel; PartNumber: LMZ22003TZX/NOPB; Manufacturer: National Semiconductor; PackageTopMarking: NSUZXYTTE#*LMZ22003; PowerWise: N; High-Reliability: Y; DatasheetVersion: Apr-2011; PackageVersion: revD, Apr-2011; PackageReference: TZA07A; PackageDescription: TO-PMOD-7, 10.16 x 9.85 x 4.57 mm Body, 7 Lead, 1.27mm Pitch, Surface Mount; RoHS: Y; PinCount: 7; CompType: Switcher; ComponentLink1Description: Manufacturer URL; ComponentLink1URL: http://www.national.com/; ComponentLink2Description: LMZ22003 Datasheet; ComponentLink2URL: http://www.national.com/ds/LM/LMZ22003.pdf; ComponentLink3Description: LMZ22003 Web Page; ComponentLink3URL: http://www.national.com/pf/LM/LMZ22003.html; ComponentLink4Description: TZA07A Package Page; ComponentLink4URL: http://www.national.com/packaging/folders/tza07a.html
footprint TZA07A_V (D2-PAK, 8-Leads, Body 9.9x10.2mm, Pitch 1.27mm, Lead Span 13.8mm, NSC Recommended)
pins: 1 VIN (power), 2 SYNC (in), 3 EN (in), 4 AGND (power), 5 FB (in), 6 SS/TRK (in), 7 VOUT (power), 8 EP (power)

## LMZ22005TZ/NOPB
designator U?
5A SIMPLE SWITCHER® Power Module with 20V Maximum Input Voltage, 7 pin TO-PMOD, 45 Rail; PartNumber: LMZ22005TZ/NOPB; Manufacturer: National Semiconductor; PackageTopMarking: NSUZXYTTE#*LMZ22005; PowerWise: N; High-Reliability: Y; DatasheetVersion: Apr-2011; PackageVersion: revD, Apr-2011; PackageReference: TZA07A; PackageDescription: TO-PMOD-7, 10.16 x 9.85 x 4.57 mm Body, 7 Lead, 1.27mm Pitch, Surface Mount; RoHS: Y; PinCount: 7; CompType: Switcher; ComponentLink1Description: Manufacturer URL; ComponentLink1URL: http://www.national.com/; ComponentLink2Description: LMZ22005 Datasheet; ComponentLink2URL: http://www.national.com/ds/LM/LMZ22005.pdf; ComponentLink3Description: LMZ22005 Web Page; ComponentLink3URL: http://www.national.com/pf/LM/LMZ22005.html; ComponentLink4Description: TZA07A Package Page; ComponentLink4URL: http://www.national.com/packaging/folders/tza07a.html
footprint TZA07A_V (D2-PAK, 8-Leads, Body 9.9x10.2mm, Pitch 1.27mm, Lead Span 13.8mm, NSC Recommended)
pins: 1 VIN (power), 2 SYNC (in), 3 EN (in), 4 AGND (power), 5 FB (in), 6 SS/TRK (in), 7 VOUT (power), 8 EP (power)

## LMZ22005TZE/NOPB
designator U?
5A SIMPLE SWITCHER® Power Module with 20V Maximum Input Voltage, 7 pin TO-PMOD, 250 Reel; PartNumber: LMZ22005TZE/NOPB; Manufacturer: National Semiconductor; PackageTopMarking: NSUZXYTTE#*LMZ22005; PowerWise: N; High-Reliability: Y; DatasheetVersion: Apr-2011; PackageVersion: revD, Apr-2011; PackageReference: TZA07A; PackageDescription: TO-PMOD-7, 10.16 x 9.85 x 4.57 mm Body, 7 Lead, 1.27mm Pitch, Surface Mount; RoHS: Y; PinCount: 7; CompType: Switcher; ComponentLink1Description: Manufacturer URL; ComponentLink1URL: http://www.national.com/; ComponentLink2Description: LMZ22005 Datasheet; ComponentLink2URL: http://www.national.com/ds/LM/LMZ22005.pdf; ComponentLink3Description: LMZ22005 Web Page; ComponentLink3URL: http://www.national.com/pf/LM/LMZ22005.html; ComponentLink4Description: TZA07A Package Page; ComponentLink4URL: http://www.national.com/packaging/folders/tza07a.html
footprint TZA07A_V (D2-PAK, 8-Leads, Body 9.9x10.2mm, Pitch 1.27mm, Lead Span 13.8mm, NSC Recommended)
pins: 1 VIN (power), 2 SYNC (in), 3 EN (in), 4 AGND (power), 5 FB (in), 6 SS/TRK (in), 7 VOUT (power), 8 EP (power)

## LMZ22005TZX/NOPB
designator U?
5A SIMPLE SWITCHER® Power Module with 20V Maximum Input Voltage, 7 pin TO-PMOD, 500 Reel; PartNumber: LMZ22005TZX/NOPB; Manufacturer: National Semiconductor; PackageTopMarking: NSUZXYTTE#*LMZ22005; PowerWise: N; High-Reliability: Y; DatasheetVersion: Apr-2011; PackageVersion: revD, Apr-2011; PackageReference: TZA07A; PackageDescription: TO-PMOD-7, 10.16 x 9.85 x 4.57 mm Body, 7 Lead, 1.27mm Pitch, Surface Mount; RoHS: Y; PinCount: 7; CompType: Switcher; ComponentLink1Description: Manufacturer URL; ComponentLink1URL: http://www.national.com/; ComponentLink2Description: LMZ22005 Datasheet; ComponentLink2URL: http://www.national.com/ds/LM/LMZ22005.pdf; ComponentLink3Description: LMZ22005 Web Page; ComponentLink3URL: http://www.national.com/pf/LM/LMZ22005.html; ComponentLink4Description: TZA07A Package Page; ComponentLink4URL: http://www.national.com/packaging/folders/tza07a.html
footprint TZA07A_V (D2-PAK, 8-Leads, Body 9.9x10.2mm, Pitch 1.27mm, Lead Span 13.8mm, NSC Recommended)
pins: 1 VIN (power), 2 SYNC (in), 3 EN (in), 4 AGND (power), 5 FB (in), 6 SS/TRK (in), 7 VOUT (power), 8 EP (power)

## LMZ22008TZ/NOPB
designator U?
8A SIMPLE SWITCHER® Power Module with 20V Maximum Input Voltage and Current Sharing, 11 pin TO-PMOD, 32 Rail; PartNumber: LMZ22008TZ/NOPB; Manufacturer: National Semiconductor; PackageTopMarking: NSUZXYTTE#*LMZ22008; PowerWise: N; High-Reliability: Y; DatasheetVersion: Apr-2011; PackageVersion: revE, Apr-2011; PackageReference: TZA11A; PackageDescription: TO-PMOD, 15 x 15 x 5.9 mm Body, 11 Lead, 1.27 mm Pitch, Surface Mount; RoHS: Y; PinCount: 11; CompType: Switcher; ComponentLink1Description: Manufacturer URL; ComponentLink1URL: http://www.national.com/; ComponentLink2Description: LMZ22008 Datasheet; ComponentLink2URL: http://www.national.com/ds/LM/LMZ22008.pdf; ComponentLink3Description: LMZ22008 Web Page; ComponentLink3URL: http://www.national.com/pf/LM/LMZ22008.html; ComponentLink4Description: TZA11A Package Page; ComponentLink4URL: http://www.national.com/packaging/folders/tza11a.html
footprint TZA11A_V (TO, 12-Leads, Body 15x15mm, Pitch 1.27mm, Lead Span 17.8mm, NSC Recommended)
pins: 1 VIN (power), 2 VIN (power), 3 SYNC (in), 4 EN (in), 5 AGND (power), 6 AGND (power), 7 FB, 8 SS (in), 9 SH, 10 VOUT (power), 11 VOUT (power), 12 EP (power)

## LMZ22008TZE/NOPB
designator U?
8A SIMPLE SWITCHER® Power Module with 20V Maximum Input Voltage and Current Sharing, 11 pin TO-PMOD, 250 Reel; PartNumber: LMZ22008TZE/NOPB; Manufacturer: National Semiconductor; PackageTopMarking: NSUZXYTTE#*LMZ22008; PowerWise: N; High-Reliability: Y; DatasheetVersion: Apr-2011; PackageVersion: revE, Apr-2011; PackageReference: TZA11A; PackageDescription: TO-PMOD, 15 x 15 x 5.9 mm Body, 11 Lead, 1.27 mm Pitch, Surface Mount; RoHS: Y; PinCount: 11; CompType: Switcher; ComponentLink1Description: Manufacturer URL; ComponentLink1URL: http://www.national.com/; ComponentLink2Description: LMZ22008 Datasheet; ComponentLink2URL: http://www.national.com/ds/LM/LMZ22008.pdf; ComponentLink3Description: LMZ22008 Web Page; ComponentLink3URL: http://www.national.com/pf/LM/LMZ22008.html; ComponentLink4Description: TZA11A Package Page; ComponentLink4URL: http://www.national.com/packaging/folders/tza11a.html
footprint TZA11A_V (TO, 12-Leads, Body 15x15mm, Pitch 1.27mm, Lead Span 17.8mm, NSC Recommended)
pins: 1 VIN (power), 2 VIN (power), 3 SYNC (in), 4 EN (in), 5 AGND (power), 6 AGND (power), 7 FB, 8 SS (in), 9 SH, 10 VOUT (power), 11 VOUT (power), 12 EP (power)

## LMZ22010TZ/NOPB
designator U?
10A SIMPLE SWITCHER® Power Module with 20V Maximum Input and Current Sharing, 11 pin TO-PMOD, 32 Rail; PartNumber: LMZ22010TZ/NOPB; Manufacturer: National Semiconductor; PackageTopMarking: NSUZXYTTE#*LMZ22010; PowerWise: N; High-Reliability: Y; DatasheetVersion: Apr-2011; PackageVersion: revE, Apr-2011; PackageReference: TZA11A; PackageDescription: TO-PMOD, 15 x 15 x 5.9 mm Body, 11 Lead, 1.27 mm Pitch, Surface Mount; RoHS: Y; PinCount: 11; CompType: Switcher; ComponentLink1Description: Manufacturer URL; ComponentLink1URL: http://www.national.com/; ComponentLink2Description: LMZ22010 Datasheet; ComponentLink2URL: http://www.national.com/ds/LM/LMZ22010.pdf; ComponentLink3Description: LMZ22010 Web Page; ComponentLink3URL: http://www.national.com/pf/LM/LMZ22010.html; ComponentLink4Description: TZA11A Package Page; ComponentLink4URL: http://www.national.com/packaging/folders/tza11a.html
footprint TZA11A_V (TO, 12-Leads, Body 15x15mm, Pitch 1.27mm, Lead Span 17.8mm, NSC Recommended)
pins: 1 VIN (power), 2 VIN (power), 3 SYNC (in), 4 EN (in), 5 AGND (power), 6 AGND (power), 7 FB, 8 SS (in), 9 SH, 10 VOUT (power), 11 VOUT (power), 12 EP (power)

## LMZ22010TZE/NOPB
designator U?
10A SIMPLE SWITCHER® Power Module with 20V Maximum Input and Current Sharing, 11 pin TO-PMOD, 250 Reel; PartNumber: LMZ22010TZE/NOPB; Manufacturer: National Semiconductor; PackageTopMarking: NSUZXYTTE#*LMZ22010; PowerWise: N; High-Reliability: Y; DatasheetVersion: Apr-2011; PackageVersion: revE, Apr-2011; PackageReference: TZA11A; PackageDescription: TO-PMOD, 15 x 15 x 5.9 mm Body, 11 Lead, 1.27 mm Pitch, Surface Mount; RoHS: Y; PinCount: 11; CompType: Switcher; ComponentLink1Description: Manufacturer URL; ComponentLink1URL: http://www.national.com/; ComponentLink2Description: LMZ22010 Datasheet; ComponentLink2URL: http://www.national.com/ds/LM/LMZ22010.pdf; ComponentLink3Description: LMZ22010 Web Page; ComponentLink3URL: http://www.national.com/pf/LM/LMZ22010.html; ComponentLink4Description: TZA11A Package Page; ComponentLink4URL: http://www.national.com/packaging/folders/tza11a.html
footprint TZA11A_V (TO, 12-Leads, Body 15x15mm, Pitch 1.27mm, Lead Span 17.8mm, NSC Recommended)
pins: 1 VIN (power), 2 VIN (power), 3 SYNC (in), 4 EN (in), 5 AGND (power), 6 AGND (power), 7 FB, 8 SS (in), 9 SH, 10 VOUT (power), 11 VOUT (power), 12 EP (power)

## LMZ23603TZ/NOPB
designator U?
3A SIMPLE SWITCHER® Power Module with 36V Maximum Input Voltage, 7 pin TO-PMOD, 45 Rail; PartNumber: LMZ23603TZ/NOPB; Manufacturer: National Semiconductor; PackageTopMarking: NSUZXYTTE#*LMZ23603; PowerWise: N; High-Reliability: Y; DatasheetVersion: Apr-2011; PackageVersion: revD, Apr-2011; PackageReference: TZA07A; PackageDescription: TO-PMOD-7, 10.16 x 9.85 x 4.57 mm Body, 7 Lead, 1.27mm Pitch, Surface Mount; RoHS: Y; PinCount: 7; CompType: Switcher; ComponentLink1Description: Manufacturer URL; ComponentLink1URL: http://www.national.com/; ComponentLink2Description: LMZ23603 Datasheet; ComponentLink2URL: http://www.national.com/ds/LM/LMZ23603.pdf; ComponentLink3Description: LMZ23603 Web Page; ComponentLink3URL: http://www.national.com/pf/LM/LMZ23603.html; ComponentLink4Description: TZA07A Package Page; ComponentLink4URL: http://www.national.com/packaging/folders/tza07a.html
footprint TZA07A_V (D2-PAK, 8-Leads, Body 9.9x10.2mm, Pitch 1.27mm, Lead Span 13.8mm, NSC Recommended)
pins: 1 VIN (power), 2 SYNC (in), 3 EN (in), 4 AGND (power), 5 FB (in), 6 SS/TRK (in), 7 VOUT (power), 8 EP (power)

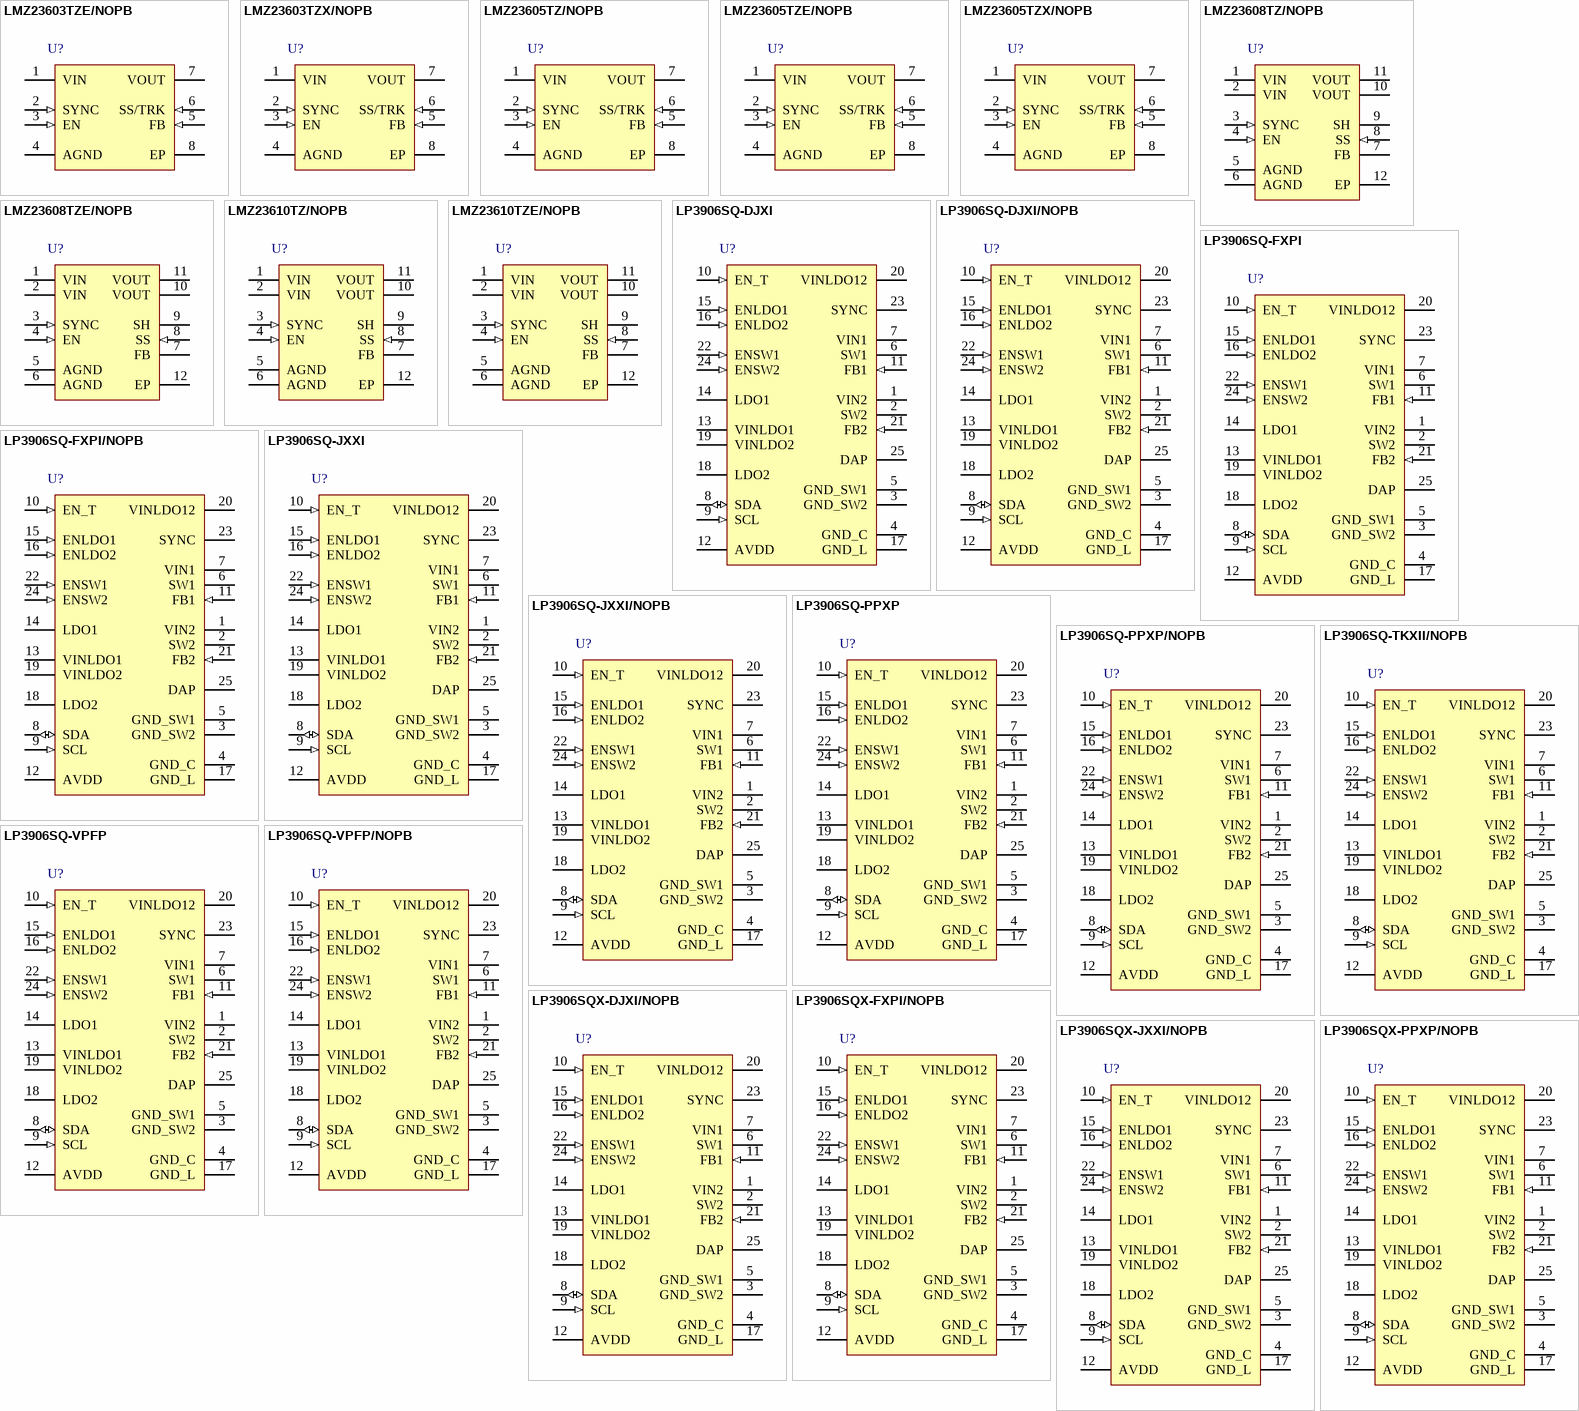
[diagram p64: symbols LMZ23603TZE/NOPB to LP3906SQX-PPXP/NOPB]

## LMZ23603TZE/NOPB
designator U?
3A SIMPLE SWITCHER® Power Module with 36V Maximum Input Voltage, 7 pin TO-PMOD, 250 Reel; PartNumber: LMZ23603TZE/NOPB; Manufacturer: National Semiconductor; PackageTopMarking: NSUZXYTTE#*LMZ23603; PowerWise: N; High-Reliability: Y; DatasheetVersion: Apr-2011; PackageVersion: revD, Apr-2011; PackageReference: TZA07A; PackageDescription: TO-PMOD-7, 10.16 x 9.85 x 4.57 mm Body, 7 Lead, 1.27mm Pitch, Surface Mount; RoHS: Y; PinCount: 7; CompType: Switcher; ComponentLink1Description: Manufacturer URL; ComponentLink1URL: http://www.national.com/; ComponentLink2Description: LMZ23603 Datasheet; ComponentLink2URL: http://www.national.com/ds/LM/LMZ23603.pdf; ComponentLink3Description: LMZ23603 Web Page; ComponentLink3URL: http://www.national.com/pf/LM/LMZ23603.html; ComponentLink4Description: TZA07A Package Page; ComponentLink4URL: http://www.national.com/packaging/folders/tza07a.html
footprint TZA07A_V (D2-PAK, 8-Leads, Body 9.9x10.2mm, Pitch 1.27mm, Lead Span 13.8mm, NSC Recommended)
pins: 1 VIN (power), 2 SYNC (in), 3 EN (in), 4 AGND (power), 5 FB (in), 6 SS/TRK (in), 7 VOUT (power), 8 EP (power)

## LMZ23603TZX/NOPB
designator U?
3A SIMPLE SWITCHER® Power Module with 36V Maximum Input Voltage, 7 pin TO-PMOD, 500 Reel; PartNumber: LMZ23603TZX/NOPB; Manufacturer: National Semiconductor; PackageTopMarking: NSUZXYTTE#*LMZ23603; PowerWise: N; High-Reliability: Y; DatasheetVersion: Apr-2011; PackageVersion: revD, Apr-2011; PackageReference: TZA07A; PackageDescription: TO-PMOD-7, 10.16 x 9.85 x 4.57 mm Body, 7 Lead, 1.27mm Pitch, Surface Mount; RoHS: Y; PinCount: 7; CompType: Switcher; ComponentLink1Description: Manufacturer URL; ComponentLink1URL: http://www.national.com/; ComponentLink2Description: LMZ23603 Datasheet; ComponentLink2URL: http://www.national.com/ds/LM/LMZ23603.pdf; ComponentLink3Description: LMZ23603 Web Page; ComponentLink3URL: http://www.national.com/pf/LM/LMZ23603.html; ComponentLink4Description: TZA07A Package Page; ComponentLink4URL: http://www.national.com/packaging/folders/tza07a.html
footprint TZA07A_V (D2-PAK, 8-Leads, Body 9.9x10.2mm, Pitch 1.27mm, Lead Span 13.8mm, NSC Recommended)
pins: 1 VIN (power), 2 SYNC (in), 3 EN (in), 4 AGND (power), 5 FB (in), 6 SS/TRK (in), 7 VOUT (power), 8 EP (power)

## LMZ23605TZ/NOPB
designator U?
5A SIMPLE SWITCHER® Power Module with 36V Maximum Input Voltage, 7 pin TO-PMOD, 45 Rail; PartNumber: LMZ23605TZ/NOPB; Manufacturer: National Semiconductor; PackageTopMarking: NSUZXYTTE#*LMZ23605; PowerWise: N; High-Reliability: Y; DatasheetVersion: Apr-2011; PackageVersion: revD, Apr-2011; PackageReference: TZA07A; PackageDescription: TO-PMOD-7, 10.16 x 9.85 x 4.57 mm Body, 7 Lead, 1.27mm Pitch, Surface Mount; RoHS: Y; PinCount: 7; CompType: Switcher; ComponentLink1Description: Manufacturer URL; ComponentLink1URL: http://www.national.com/; ComponentLink2Description: LMZ23605 Datasheet; ComponentLink2URL: http://www.national.com/ds/LM/LMZ23605.pdf; ComponentLink3Description: LMZ23605 Web Page; ComponentLink3URL: http://www.national.com/pf/LM/LMZ23605.html; ComponentLink4Description: TZA07A Package Page; ComponentLink4URL: http://www.national.com/packaging/folders/tza07a.html
footprint TZA07A_V (D2-PAK, 8-Leads, Body 9.9x10.2mm, Pitch 1.27mm, Lead Span 13.8mm, NSC Recommended)
pins: 1 VIN (power), 2 SYNC (in), 3 EN (in), 4 AGND (power), 5 FB (in), 6 SS/TRK (in), 7 VOUT (power), 8 EP (power)

## LMZ23605TZE/NOPB
designator U?
5A SIMPLE SWITCHER® Power Module with 36V Maximum Input Voltage, 7 pin TO-PMOD, 250 Reel; PartNumber: LMZ23605TZE/NOPB; Manufacturer: National Semiconductor; PackageTopMarking: NSUZXYTTE#*LMZ23605; PowerWise: N; High-Reliability: Y; DatasheetVersion: Apr-2011; PackageVersion: revD, Apr-2011; PackageReference: TZA07A; PackageDescription: TO-PMOD-7, 10.16 x 9.85 x 4.57 mm Body, 7 Lead, 1.27mm Pitch, Surface Mount; RoHS: Y; PinCount: 7; CompType: Switcher; ComponentLink1Description: Manufacturer URL; ComponentLink1URL: http://www.national.com/; ComponentLink2Description: LMZ23605 Datasheet; ComponentLink2URL: http://www.national.com/ds/LM/LMZ23605.pdf; ComponentLink3Description: LMZ23605 Web Page; ComponentLink3URL: http://www.national.com/pf/LM/LMZ23605.html; ComponentLink4Description: TZA07A Package Page; ComponentLink4URL: http://www.national.com/packaging/folders/tza07a.html
footprint TZA07A_V (D2-PAK, 8-Leads, Body 9.9x10.2mm, Pitch 1.27mm, Lead Span 13.8mm, NSC Recommended)
pins: 1 VIN (power), 2 SYNC (in), 3 EN (in), 4 AGND (power), 5 FB (in), 6 SS/TRK (in), 7 VOUT (power), 8 EP (power)